# Altium integrated library Magic-FDSM_rev15a.intlib: 2 symbols
Pins are listed as number, name and electrical type; pins without a type are passive.

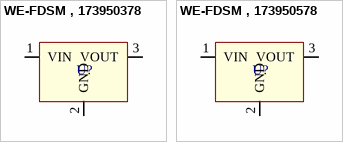
[diagram p0: symbols WE-FDSM , 173950378 to WE-FDSM , 173950578]

## WE-FDSM , 173950378
designator U?, comment 3.3V  (value not drawn)
MagI³C-FDSM Fixed Step Down Regulator Module WE-FDSM , Vin=6V-28V; PartNo: 173950378; Manufacturer: Würth Elektronik eiSos GmbH; Input Voltage (Vin): 6V-28V; Output Current (Iout): 500mA; ComponentLink1Description: Manufacturer; ComponentLink1URL: http://www.we-online.de; Created by: Otto Christin; Created Date: NOV 2014; ComponentLink2Description: Datasheet; ComponentLink2URL: http://www.we-online.de/katalog/media/pdf/173950378.pdf; Output Voltage (Vout): 3.3V; Package: SIP-3
footprint WE-FDSM (SIP-3, Body 11.60mm x8.50mm, pitch-2.54mm)
pins: 1 VIN, 2 GND, 3 VOUT

## WE-FDSM , 173950578
designator U?, comment 5V  (value not drawn)
MagI³C-FDSM Fixed Step Down Regulator Module WE-FDSM , Vin=7V-28V; PartNo: 171030301; Manufacturer: Würth Elektronik eiSos GmbH; Input Voltage (Vin): 7V-28V; Output Current (Iout): 500mA; ComponentLink1Description: Manufacturer; ComponentLink1URL: http://www.we-online.de; Created by: Otto Christin; Created Date: NOV 2014; ComponentLink2Description: Datasheet; ComponentLink2URL: http://www.we-online.de/katalog/media/pdf/173950578.pdf; Output Voltage (Vout): 5V; Package: SIP-3
footprint WE-FDSM (SIP-3, Body 11.60mm x8.50mm, pitch-2.54mm)
pins: 1 VIN, 2 GND, 3 VOUT